# Altium schematic symbol library 640457-2.SchLib: 1 symbol
Pins are listed as number, name and electrical type; pins without a type are passive.

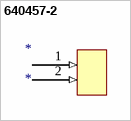
[diagram p0: symbol 640457-2]

## 640457-2
designator *
footprint 640457
pins: 1 (in), 2 (in)
1 alternate drawing of the same symbol